# EAGLE library part S2G4_JUMP (library #PaJa_konektory)
Radove konektory - koliky - dvojite - 2x4
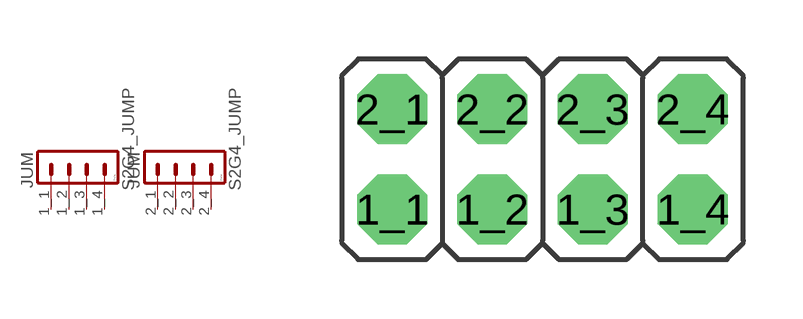
[diagram p27: symbol with the pads of S2G4_JUM; footprint S2G4_JUM]

Designator prefix JUM; gates 1=S1G4 2=S1G4

## S2G4_JUMP  [S2G4_JUM]
1_1  1:1  pas
1_2  1:2  pas
1_3  1:3  pas
1_4  1:4  pas
2_1  2:1  pas
2_2  2:2  pas
2_3  2:3  pas
2_4  2:4  pas

## Footprint S2G4_JUM (pad centres in mm)
drill 1.016 pad 1.778 octagon: 1_1 -3.81,-1.27; 1_2 -1.27,-1.27; 1_3 1.27,-1.27; 1_4 3.81,-1.27; 2_1 -3.81,1.27; 2_2 -1.27,1.27; 2_3 1.27,1.27; 2_4 3.81,1.27